# Altium schematic symbol library LPEDT_Parts.SchLib: 52 symbols (part 2 of 3)
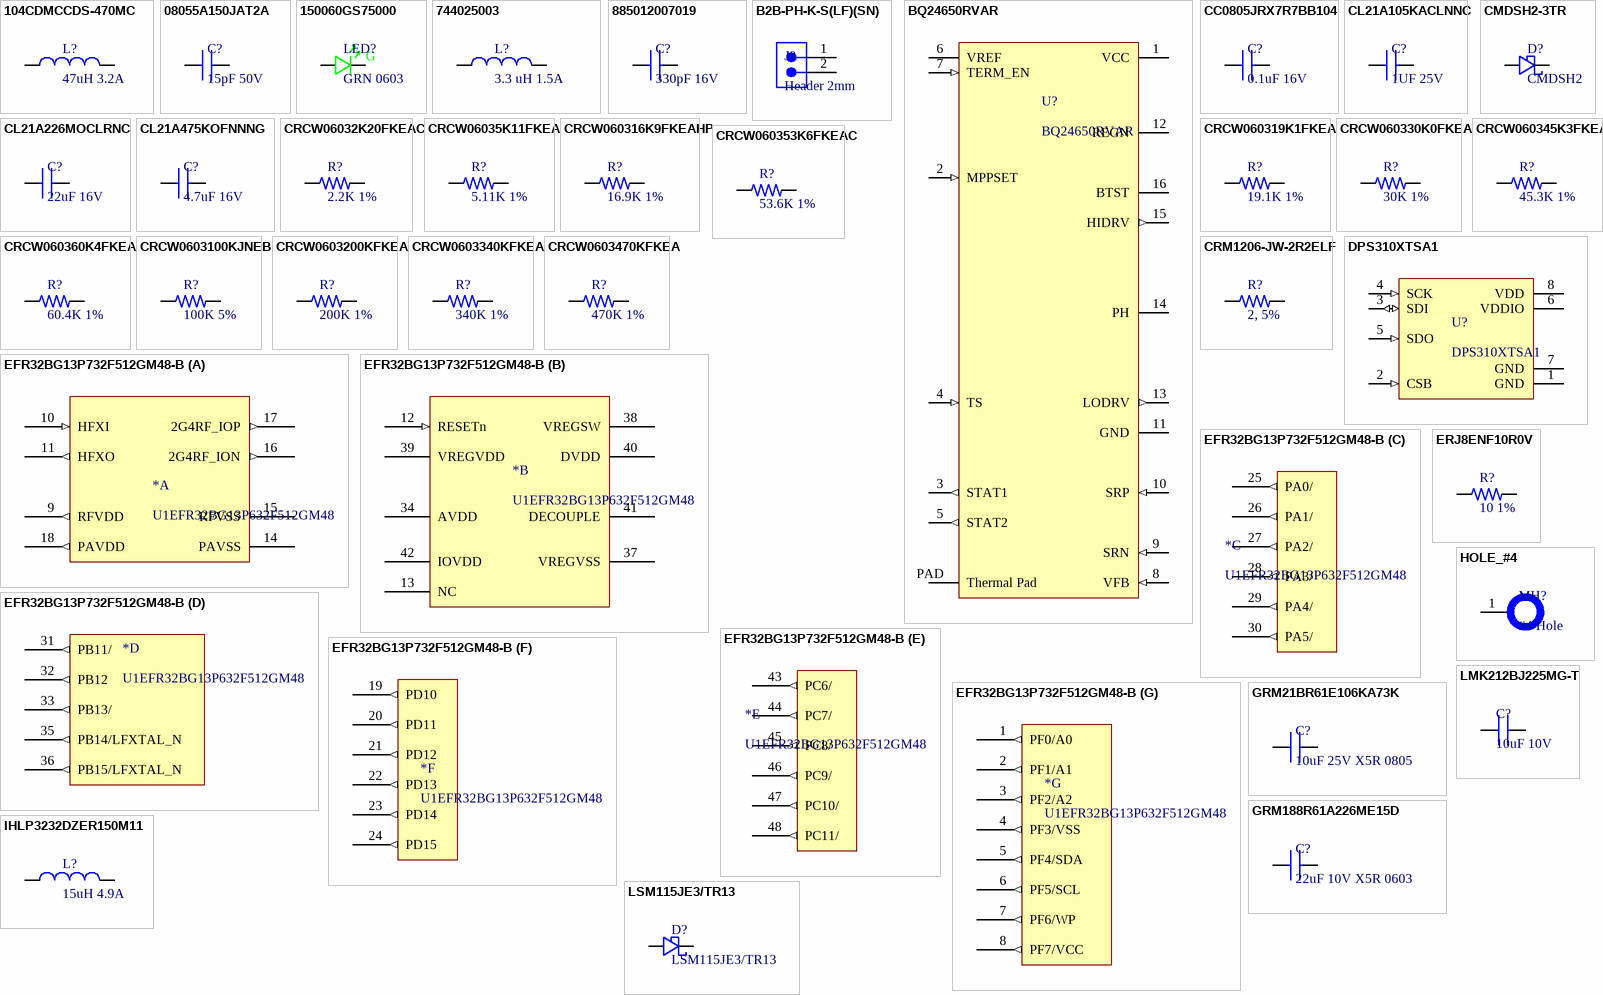
[diagram p2: symbols 104CDMCCDS-470MC to LSM115JE3/TR13]

## CRCW0603470KFKEA
designator R?, comment 470K 1%
VISHAY - CRCW0603470KFKEA - SMD Chip Resistor, 0603 [1608 Metric], 470 kohm, CRCW e3 Series, 75 V, Thick Film, 100 mW; Resistance: 470kR; Power Rating: 100mW; Temperature Coefficient: 100ppm/°C; Voltage Rating: 75V; Supplier 1: Digi-Key; Manufacturer: Vishay; Manufacturer Part Number: CRCW0603470KFKEA; RoHS: Yes; Category: Chip SMD Resistors; Stock 1: 4420; Pricing 1: 1=0.10000, 10=0.03400, 100=0.01390, 1000=0.00624, 2500=0.00542 (USD); Mount: Surface Mount; Case/Package: 0603; Number of Pins: 2; Contact Plating: Tin; Weight: 7.1E-05oz; Case Code (Metric): 1608; Case Code (Imperial): 0603; Size Code: 0603; Min Operating Temperature: -55°C; Max Operating Temperature: 155°C; Tolerance: 1%; Resistor Type: Thick Film; Termination: SMD/SMT; Packaging: Tape and Reel; Package Quantity: 10; Number of Terminations: 2; Max Power Dissipation: 100mW; Voltage Rating (DC): 75V; Features: Automotive AEC-Q200; Series: CRCW; Construction: Rectangular; Resistance Tolerance: 1%; Technology: THICK FILM; Length: 1.55mm; Width: 0.033inch; Height: 0.45mm; Depth: 0.85mm; Radiation Hardening: No; Lead Free: Lead Free; RoHS Compliant: Yes; REACH SVHC: Unknown; Military Standard: Not; ComponentLink1URL: https://datasheet.ciiva.com/11809/0900766b80d98afc-11809059.pdf?src-supplier=RSComponents; ComponentLink1Description: https://datasheet.ciiva.com/11809/0900766b80d98afc-11809059.pdf?src-supplier=RSComponents; ComponentLink2URL: https://datasheet.ciiva.com/2466/dcrcwe3-2466326.pdf?src-supplier=Digi-Key; ComponentLink2Description: https://datasheet.ciiva.com/2466/dcrcwe3-2466326.pdf?src-supplier=Digi-Key; ComponentLink3URL: https://datasheet.ciiva.com/2466/dcrcwe3-2466327.pdf?src-supplier=Digi-Key; ComponentLink3Description: https://datasheet.ciiva.com/2466/dcrcwe3-2466327.pdf?src-supplier=Digi-Key; ComponentLink4URL: https://datasheet.ciiva.com/2466/dcrcwe3-2466328.pdf?src-supplier=Digi-Key; ComponentLink4Description: https://datasheet.ciiva.com/2466/dcrcwe3-2466328.pdf?src-supplier=Digi-Key; ComponentLink5URL: https://datasheet.ciiva.com/7673/1720486-7673467.pdf?src-supplier=Element14; ComponentLink5Description: https://datasheet.ciiva.com/7673/1720486-7673467.pdf?src-supplier=Element14; ComponentLink6URL: https://datasheet.ciiva.com/16430/dcrcwe3-16430126.pdf?src-supplier=Future+Electronics; ComponentLink6Description: https://datasheet.ciiva.com/16430/dcrcwe3-16430126.pdf?src-supplier=Future+Electronics; ComponentLink7URL: https://datasheet.ciiva.com/5551/dcrcwe3-109170-5551097.pdf?src-supplier=Mouser; ComponentLink7Description: https://datasheet.ciiva.com/5551/dcrcwe3-109170-5551097.pdf?src-supplier=Mouser; ComponentLink8URL: https://datasheet.ciiva.com/16760/70201119-16760810.pdf?src-supplier=Allied+Electronics; ComponentLink8Description: https://datasheet.ciiva.com/16760/70201119-16760810.pdf?src-supplier=Allied+Electronics; ComponentLink9URL: https://datasheet.ciiva.com/7673/1697337-7673309.pdf?src-supplier=Element14; ComponentLink9Description: https://datasheet.ciiva.com/7673/1697337-7673309.pdf?src-supplier=Element14; ComponentLink10URL: https://datasheet.ciiva.com/26317/fld-crcw-e3-data-en-26317181.pdf?src-supplier=Distrelec; ComponentLink10Description: https://datasheet.ciiva.com/26317/fld-crcw-e3-data-en-26317181.pdf?src-supplier=Distrelec
footprint RES_0603_1608X06 (Chip Resistor, 2-Leads, Body 1.60x0.80mm, IPC Medium Density)
pins: 1, 2

## CRM1206-JW-2R2ELF
designator R?, comment 2, 5%
BOURNS - CRM1206-JW-2R2ELF - SMD Current Sense Resistor, 2.2 ohm, CRM Series, 1206 [3216 Metric], 500 mW, ± 5%, Thick Film; Resistance: 2.2R; Temperature Coefficient: 200ppm/°C; Power Rating: 500mW; Voltage Rating: 200V; Supplier 1: Digi-Key; Manufacturer: Bourns; Manufacturer Part Number: CRM1206-JW-2R2ELF; RoHS: Yes; Category: Chip SMD Resistors; Stock 1: 20424; Pricing 1: 1=0.14000, 10=0.12200, 25=0.08480, 50=0.06580, 100=0.04700, 250=0.03664, 500=0.02914, 1000=0.02068 (USD); Case/Package: 1206; Number of Pins: 2; Case Code (Metric): 3216; Case Code (Imperial): 1206; Min Operating Temperature: -55°C; Max Operating Temperature: 155°C; Tolerance: 5%; Resistor Type: Thick Film; Packaging: Cut Tape; Package Quantity: 5000; Number of Terminations: 2; Max Power Dissipation: 500mW; Voltage Rating (DC): 200V; Series: CRM1206; Construction: Rectangular; Resistance Tolerance: 5%; Length: 3.1mm; Width: 0.063inch; Height: 0.026inch; Depth: 1.6mm; REACH SVHC: No SVHC; Military Standard: Not; RoHS Compliant: Yes; ComponentLink1URL: https://datasheet.ciiva.com/9123/crm0805-1206-2010-9123253.pdf?src-supplier=Avnet; ComponentLink1Description: https://datasheet.ciiva.com/9123/crm0805-1206-2010-9123253.pdf?src-supplier=Avnet; ComponentLink2URL: https://datasheet.ciiva.com/7985/1859481-7985944.pdf?src-supplier=Element14; ComponentLink2Description: https://datasheet.ciiva.com/7985/1859481-7985944.pdf?src-supplier=Element14; ComponentLink3URL: https://datasheet.ciiva.com/6562/crm0805-1206-2010-6562779.pdf?src-supplier=Digi-Key; ComponentLink3Description: https://datasheet.ciiva.com/6562/crm0805-1206-2010-6562779.pdf?src-supplier=Digi-Key; ComponentLink4URL: https://datasheet.ciiva.com/6562/crm0805-1206-2010-6562780.pdf?src-supplier=Digi-Key; ComponentLink4Description: https://datasheet.ciiva.com/6562/crm0805-1206-2010-6562780.pdf?src-supplier=Digi-Key; ComponentLink5URL: https://datasheet.ciiva.com/6562/crm0805-1206-2010-6562782.pdf?src-supplier=Digi-Key; ComponentLink5Description: https://datasheet.ciiva.com/6562/crm0805-1206-2010-6562782.pdf?src-supplier=Digi-Key; ComponentLink6URL: https://datasheet.ciiva.com/16929/crm0805-1206-2010-16929262.pdf?src-supplier=Avnet+Europe; ComponentLink6Description: https://datasheet.ciiva.com/16929/crm0805-1206-2010-16929262.pdf?src-supplier=Avnet+Europe
footprint RES_1206_310X16 (Chip Resistor, 2-Leads, Body 3.10x1.60mm, IPC Medium Density)
pins: 1, 2

## DPS310XTSA1
designator U?
INFINEON - DPS310XTSA1 - Pressure Sensor, Barometric, 17.404 psi, 4.351 psi, 1.7 V, 3.6 V; Interface: I2C,SPI; Max Supply Voltage: 3.6V; Output Type: SPI,I2C; Pressure Type: Vented Gauge; Operating Pressure: 17.4PSI; Max Pressure: 145PSI; Supplier 1: Digi-Key; Manufacturer: Infineon; Manufacturer Part Number: DPS310XTSA1; RoHS: Yes; Category: Pressure Sensors; Stock 1: 17160; Pricing 1: 1=2.89000, 5=2.68200, 10=2.22800, 25=1.85640, 50=1.65000, 100=1.56750, 500=1.32000, 1000=1.23750 (USD); Case/Package: LGA; Number of Pins: 8; Min Operating Temperature: -40°C; Max Operating Temperature: 85°C; Termination: SMD/SMT; Lead Free: Lead Free; Halogen Free: Halogen Free; RoHS Compliant: Yes; ComponentLink1URL: http://www.farnell.com/datasheets/2211517.pdf?src-supplier=Farnell; ComponentLink1Description: http://www.farnell.com/datasheets/2211517.pdf?src-supplier=Farnell; ComponentLink2URL: https://www.infineon.com/dgdl/Infineon-DPS310-DS-v01_00-EN.pdf?fileId=5546d462576f34750157750826c42242&src-supplier=Digi-Key; ComponentLink2Description: https://www.infineon.com/dgdl/Infineon-DPS310-DS-v01_00-EN.pdf?fileId=5546d462576f34750157750826c42242&src-supplier=Digi-Key; ComponentLink3URL: http://www.farnell.com/datasheets/2211517.pdf?src-supplier=Newark; ComponentLink3Description: http://www.farnell.com/datasheets/2211517.pdf?src-supplier=Newark; ComponentLink4URL: http://www.farnell.com/datasheets/2211517.pdf?src-supplier=Element14; ComponentLink4Description: http://www.farnell.com/datasheets/2211517.pdf?src-supplier=Element14
footprint 8-VLGA_2x2_5x1 (VLGA, 8-Leads, Body 2.00x2.50mmx1.00mm, Pitch 0.65mm)
pins: 1 GND (power) "Groud", 2 CSB (in) "Not used - open (internal pullup) or tie to VDDIO", 3 SDI (io) "Serial data in/out", 4 SCK (in) "Serial Clock", 5 SDO (in) "Interrupt pin and least significant bit in the device address", 6 VDDIO (power) "Digital supply voltage for digital blocks and I/O interface", 7 GND (power) "Ground", 8 VDD (power) "Supply voltage for analog blocks"

## EFR32BG13P732F512GM48-B
designator *, comment U1EFR32BG13P632F512GM48
BLUE PREMIUM QFN48 2.4G 19 DBM B; Manufacturer: Silicon Labs; Manufacturer Part Number: EFR32BG13P732F512GM48-B; Interface: I2C,UART,USART; Frequency: 2.4GHz; Data Rate: 2Mbps; Sensitivity: -102dBm; Memory Size: 64KB; Number of GPIO: 31; Current - Receiving: 11mA; Current - Transmitting: 8.5mA; Supplier 1: Digi-Key; RoHS: Yes; Category: RF Receivers, Transceivers; Stock 1: 19; Pricing 1: 1=6.48000, 25=6.24040, 100=6.00030, 1000=5.98905 (USD); Min Operating Temperature: -40°C; Max Operating Temperature: 85°C; Packaging: Tray; RoHS Compliant: Yes; ComponentLink1URL: https://www.silabs.com/documents/login/data-sheets/efr32bg13-datasheet.pdf?src-supplier=Digi-Key; ComponentLink1Description: https://www.silabs.com/documents/login/data-sheets/efr32bg13-datasheet.pdf?src-supplier=Digi-Key
footprint QFN50P700X700X90_HS-49N (QFN, 48-Leads, Body 7.00x7.00mm, Pitch 0.50mm, Thermal Pad 4.70x4.70mm, IPC Medium Density)
part A pins: 9 RFVDD (out), 10 HFXI (in), 11 HFXO (out), 14 PAVSS (power), 15 RFVSS (power), 16 2G4RF_ION (out), 17 2G4RF_IOP (out), 18 PAVDD (out)
part B pins: 12 RESETn (in), 13 NC, 34 AVDD (power), 37 VREGVSS (power), 38 VREGSW (power), 39 VREGVDD (power), 40 DVDD (power), 41 DECOUPLE (power), 42 IOVDD (power)
part C pins: 25 PA0/ (out), 26 PA1/ (out), 27 PA2/ (out), 28 PA3/ (out), 29 PA4/ (out), 30 PA5/ (out)
part D pins: 31 PB11/ (out), 32 PB12 (out), 33 PB13/ (out), 35 PB14/LFXTAL_N (out), 36 PB15/LFXTAL_N (out)
part E pins: 43 PC6/ (out), 44 PC7/ (out), 45 PC8/ (out), 46 PC9/ (out), 47 PC10/ (out), 48 PC11/ (out)
part F pins: 19 PD10 (out), 20 PD11 (out), 21 PD12 (out), 22 PD13 (out), 23 PD14 (out), 24 PD15 (out)
part G pins: 1 PF0/A0 (out), 2 PF1/A1 (out), 3 PF2/A2 (out), 4 PF3/VSS (out), 5 PF4/SDA (out), 6 PF5/SCL (out), 7 PF6/WP (out), 8 PF7/VCC (out)

## ERJ8ENF10R0V
designator R?, comment 10 1%
PANASONIC - ERJ8ENF10R0V - SMD Chip Resistor, 1206 [3216 Metric], 10 ohm, ERJ8EN Series, 200 V, Thick Film, 250 mW; Resistance: 10R; Temperature Coefficient: 100ppm/°C; Power Rating: 250mW; Voltage Rating: 200V; Supplier 1: Digi-Key; Manufacturer: Panasonic; Manufacturer Part Number: ERJ8ENF10R0V; RoHS: Yes; Category: Chip SMD Resistors; Stock 1: 395438; Pricing 1: 1=0.10000, 10=0.08900, 100=0.03410, 1000=0.01500, 2500=0.01296 (USD); Mount: Surface Mount; Case/Package: 1206; Number of Pins: 2; Contact Plating: Tin; Case Code (Metric): 3216; Case Code (Imperial): 1206; Size Code: 1206; Min Operating Temperature: -55°C; Max Operating Temperature: 155°C; Tolerance: 1%; Resistor Type: Thick Film; Packaging: Tape and Reel; Package Quantity: 5000; Number of Terminations: 2; Termination: SMD/SMT; Max Power Dissipation: 250mW; Voltage Rating (DC): 200V; Features: Automotive AEC-Q200; Series: ERJ; Resistance Tolerance: 1%; Construction: Rectangular; Length: 3.2mm; Width: 1.6mm; Height: 0.6mm; Depth: 1.6mm; Radiation Hardening: No; REACH SVHC: No SVHC; Military Standard: Not; Lead Free: Lead Free; RoHS Compliant: Yes; ComponentLink1URL: https://datasheet.ciiva.com/7802/426256-7802460.pdf?src-supplier=Element14; ComponentLink1Description: https://datasheet.ciiva.com/7802/426256-7802460.pdf?src-supplier=Element14; ComponentLink2URL: https://datasheet.ciiva.com/16758/70260748-16758703.pdf?src-supplier=Allied+Electronics; ComponentLink2Description: https://datasheet.ciiva.com/16758/70260748-16758703.pdf?src-supplier=Allied+Electronics; ComponentLink3URL: https://datasheet.ciiva.com/24069/aoa0000ce2-24069071.pdf?src-supplier=Mouser; ComponentLink3Description: https://datasheet.ciiva.com/24069/aoa0000ce2-24069071.pdf?src-supplier=Mouser; ComponentLink4URL: https://datasheet.ciiva.com/6082/426256-6082197.pdf?src-supplier=Farnell; ComponentLink4Description: https://datasheet.ciiva.com/6082/426256-6082197.pdf?src-supplier=Farnell; ComponentLink5URL: https://datasheet.ciiva.com/16724/70260748-16724651.pdf?src-supplier=Allied+Electronics; ComponentLink5Description: https://datasheet.ciiva.com/16724/70260748-16724651.pdf?src-supplier=Allied+Electronics; ComponentLink6URL: https://datasheet.ciiva.com/46372/1678782-46372959.pdf?src-supplier=Element14; ComponentLink6Description: https://datasheet.ciiva.com/46372/1678782-46372959.pdf?src-supplier=Element14
footprint RES_1206_310X16 (Chip Resistor, 2-Leads, Body 3.10x1.60mm, IPC Medium Density)
pins: 1, 2

## GRM21BR61E106KA73K
designator C?, comment 10uF 25V X5R 0805
CAP CER 10UF 25V X5R 0805; Manufacturer: Murata; Manufacturer Part Number: GRM21BR61E106KA73K; Tolerance: 10%; Supplier 1: Digi-Key; RoHS: Yes; Category: Ceramic Capacitors; Stock 1: 101639; Pricing 1: 1=0.23000, 10=0.15700, 50=0.09400, 100=0.07940, 500=0.05434, 1000=0.04807, 2500=0.04598, 5000=0.04180 (USD); Mount: Surface Mount; Case/Package: 0805; Weight: 0.000335oz; Min Operating Temperature: -55°C; Max Operating Temperature: 85°C; Packaging: Tape and Reel; Capacitance: 10uF; Voltage Rating: 25V; Package Quantity: 10000; Dielectric: X5R; Voltage Rating (DC): 25V; Length: 0.079inch; Width: 0.049inch; Thickness: 0.055inch; RoHS Compliant: Yes; ComponentLink1URL: http://www.mouser.com/ds/2/281/c02e-2905.pdf?src-supplier=Mouser; ComponentLink1Description: http://www.mouser.com/ds/2/281/c02e-2905.pdf?src-supplier=Mouser; ComponentLink2URL: http://search.murata.co.jp/Ceramy/image/img/A01X/G101/ENG/GRM21BR61E106KA73-01.pdf?src-supplier=Digi-Key; ComponentLink2Description: http://search.murata.co.jp/Ceramy/image/img/A01X/G101/ENG/GRM21BR61E106KA73-01.pdf?src-supplier=Digi-Key; ComponentLink3URL: https://search.murata.co.jp/Ceramy/image/img/A01X/G101/ENG/GRM21BR61E106KA73-01.pdf?src-supplier=Digi-Key; ComponentLink3Description: https://search.murata.co.jp/Ceramy/image/img/A01X/G101/ENG/GRM21BR61E106KA73-01.pdf?src-supplier=Digi-Key
footprint CAP_0805_1_4MM (Chip Capacitor, 2-Leads, Body 2.00x1.25mm, IPC Medium Density)
pins: 1, 2

## GRM188R61A226ME15D
designator C?, comment 22uF 10V X5R 0603
CAP CER 22UF 10V X5R 0603; Manufacturer: Murata; Manufacturer Part Number: GRM188R61A226ME15D; Voltage Rating DC: 10 VDC; Tolerance: 20 %; Brand: Murata Electronics; Type: Voltage and Temperature Derating Recommended Product; Unit Weight: 0.000222 oz; Supplier 1: Digi-Key; Supplier Part Number 1: 490-10476-1-ND; Stock 1: 849458; Pricing 1: 1=0.33, 10=0.226, 50=0.1506, 100=0.1279, 500=0.0903, 1000=0.079 (USD); Product Category: Multilayer Ceramic Capacitors MLCC - SMD/SMT; RoHS: True; Capacitance: 22 uF; Dielectric: X5R; Case Code - in: 0603; Case Code - mm: 1608; Height: 0.8 mm; Maximum Operating Temperature: + 85 C; Minimum Operating Temperature: - 55 C; Product: General Type MLCCs; Series: GRM; Packaging: Reel; Length: 1.6 mm; Package / Case: 0603 (1608 metric); Factory Pack Quantity: 4000; Termination Style: SMD/SMT; Width: 0.8 mm; ComponentLink1URL: http://www.farnell.com/datasheets/2047978.pdf?src-supplier=Element14; ComponentLink1Description: http://www.farnell.com/datasheets/2047978.pdf?src-supplier=Element14
footprint CAP_0603_1MM (Chip Capacitor, 2-Leads, Body 1.60x0.80mm, IPC Medium Density)
pins: 1, 2

## HOLE_#4
designator MH?, comment #4 Hole  (no BOM)
footprint HOLE_#4
pins: 1

## IHLP3232DZER150M11
designator L?, comment 15uH 4.9A
Inductor High Current Shielded Wirewound 15uH 20% 100KHz 4.9A 65.3mOhm DCR 3232 T/R; Manufacturer: Vishay Dale; Manufacturer Part Number: IHLP3232DZER150M11; Core Material: Ferrite; Saturation Current: 3.7A; Self Resonant Frequency: 10.3MHz; DC Resistance (DCR): 65.3mR; Supplier 1: Digi-Key; RoHS: Yes; Category: Fixed Inductors; Stock 1: 5273; Pricing 1: 1=1.37000, 10=1.26800, 25=1.17040, 50=0.97520, 100=0.91670, 250=0.81916 (USD); Mount: Surface Mount; Case/Package: 3232; Number of Pins: 2; Contact Plating: Tin; Min Operating Temperature: -55°C; Max Operating Temperature: 125°C; Inductance Tolerance: 20%; Packaging: Tape and Reel; Package Quantity: 500; Current Rating: 4.9A; Tolerance: 20%; Shielding: Shielded; Inductance: 15uH; Test Frequency: 100kHz; Max DC Current: 3.7A; Termination: SMD/SMT; RMS Current (Irms): 4.9A; Series: IHLP-3232DZ-11; Length: 8.89mm; Width: 0.322inch; Height: 4mm; Height - Seated (Max): 0.157inch; Depth: 8.26mm; Radiation Hardening: No; REACH SVHC: Unknown; Military Standard: Not; Lead Free: Lead Free; RoHS Compliant: Yes; ComponentLink1URL: https://datasheet.ciiva.com/6692/ihlp-3232dz-11-6692869.pdf?src-supplier=Digi-Key; ComponentLink1Description: https://datasheet.ciiva.com/6692/ihlp-3232dz-11-6692869.pdf?src-supplier=Digi-Key; ComponentLink2URL: https://datasheet.ciiva.com/6692/ihlp-3232dz-11-6692871.pdf?src-supplier=Digi-Key; ComponentLink2Description: https://datasheet.ciiva.com/6692/ihlp-3232dz-11-6692871.pdf?src-supplier=Digi-Key; ComponentLink3URL: https://datasheet.ciiva.com/6692/ihlp-3232dz-11-6692872.pdf?src-supplier=Digi-Key; ComponentLink3Description: https://datasheet.ciiva.com/6692/ihlp-3232dz-11-6692872.pdf?src-supplier=Digi-Key; ComponentLink4URL: https://datasheet.ciiva.com/8494/ihlp3232dz11-8494905.pdf?src-supplier=Avnet; ComponentLink4Description: https://datasheet.ciiva.com/8494/ihlp3232dz11-8494905.pdf?src-supplier=Avnet
footprint IND_818X818 (Molded Inductor, 2-Leads, Body 8.18x8.18mm, IPC Medium Density)
pins: 1, 2

## LMK212BJ225MG-T
designator C?, comment 10uF 10V
CAP CER 2.2UF 10V X5R 0805; Manufacturer: Taiyo Yuden; Manufacturer Part Number: LMK212BJ225MG-T; Tolerance: 20%; Supplier 1: Digi-Key; RoHS: Yes; Category: Ceramic Capacitors; Stock 1: 15727; Pricing 1: 1=0.14000, 10=0.10200, 50=0.05780, 100=0.04780, 500=0.03356, 1000=0.02778 (USD); Mount: Surface Mount; Case/Package: 0805; Case Code (Imperial): 0805; Case Code (Metric): 2012; Weight: 0.000194oz; Min Operating Temperature: -55°C; Max Operating Temperature: 85°C; Capacitance: 2.2uF; Packaging: Tape and Reel; Voltage Rating (DC): 10V; Voltage Rating: 10V; Dielectric: X5R; Termination: SMD/SMT; Resistor Type: Ceramic; Voltage: 10V; Series: M; Length: 2mm; Width: 1.25mm; Height: 1.25mm; Thickness: 0.053inch; Depth: 1.25mm; Radiation Hardening: No; Lead Free: Lead Free; Halogen Free: Halogen Free; RoHS Compliant: Yes; ComponentLink1URL: http://www.mouser.com/ds/2/396/mlcc_all_e-541559.pdf?src-supplier=Mouser; ComponentLink1Description: http://www.mouser.com/ds/2/396/mlcc_all_e-541559.pdf?src-supplier=Mouser; ComponentLink2URL: https://www.yuden.co.jp/productdata/catalog/mlcc01_e.pdf?src-supplier=Digi-Key; ComponentLink2Description: https://www.yuden.co.jp/productdata/catalog/mlcc01_e.pdf?src-supplier=Digi-Key; ComponentLink3URL: http://documents.rs-components.com/techlib://itc_doclist_GB.htm?stockno=7582925&src-supplier=RSComponents; ComponentLink3Description: http://documents.rs-components.com/techlib://itc_doclist_GB.htm?stockno=7582925&src-supplier=RSComponents; ComponentLink4URL: http://ds.yuden.co.jp/TYCOMPAS/ut/detail.do?productNo=LMK212BJ225MG-T&fileName=LMK212BJ225MG-T_SS&mode=specSheetDownload&src-supplier=Digi-Key; ComponentLink4Description: http://ds.yuden.co.jp/TYCOMPAS/ut/detail.do?productNo=LMK212BJ225MG-T&fileName=LMK212BJ225MG-T_SS&mode=specSheetDownload&src-supplier=Digi-Key; ComponentLink5URL: http://www.yuden.co.jp/productdata/catalog/en/mlcc_all_e.pdf?src-supplier=Digi-Key; ComponentLink5Description: http://www.yuden.co.jp/productdata/catalog/en/mlcc_all_e.pdf?src-supplier=Digi-Key
footprint CAP_0805_1_4MM (Chip Capacitor, 2-Leads, Body 2.00x1.25mm, IPC Medium Density)
pins: 1, 2

## LSM115JE3/TR13
designator D?
DIODE SCHOTTKY 30V 200MA SOD323; Manufacturer: Microsemi; Forward Voltage: 220mV; Forward Current: 1A; Max Reverse Current: 10mA; Reverse Voltage (DC): 15V; Peak Non-Repetitive Surge Current: 50A; Element Configuration: Single; Max Reverse Leakage Current: 50uA; Power Dissipation: 250mW; Supplier 1: Digi-Key; Manufacturer Part Number: LSM115JE3/TR13; RoHS: Yes; Category: Rectifier Diodes; Stock 1: 39247; Pricing 1: 1=1.08000, 10=0.88700, 100=0.69010, 500=0.58490, 1000=0.47647 (USD); Mount: Surface Mount; Number of Pins: 2; Weight: 0.003668oz; Min Operating Temperature: -55°C; Max Operating Temperature: 100°C; Packaging: Tape and Reel; Package Quantity: 3000; Average Rectified Current: 1A; Max Repetitive Reverse Voltage (Vrrm): 15V; Max Forward Surge Current (Ifsm): 50A; Max Reverse Voltage (DC): 15V; Radiation Hardening: No; Lead Free: Lead Free; ComponentLink1URL: https://datasheet.ciiva.com/917/lsm115j-917432.pdf?src-supplier=Digi-Key; ComponentLink1Description: https://datasheet.ciiva.com/917/lsm115j-917432.pdf?src-supplier=Digi-Key; Supplier 2: Digi-Key; Stock 2: 32; Pricing 2: 1=0.63000, 10=0.54300, 100=0.37560, 500=0.31386, 1000=0.26712 (USD); Max Surge Current: 1A; Voltage: 30V; Series: -; RoHS Compliant: No; ComponentLink2URL: https://datasheet.ciiva.com/4715/cmdsh2-3-39086-4715895.pdf?src-supplier=Mouser; ComponentLink2Description: https://datasheet.ciiva.com/4715/cmdsh2-3-39086-4715895.pdf?src-supplier=Mouser; ComponentLink3URL: https://datasheet.ciiva.com/16396/cmdsh2-3-16396583.pdf?src-supplier=Future+Electronics; ComponentLink3Description: https://datasheet.ciiva.com/16396/cmdsh2-3-16396583.pdf?src-supplier=Future+Electronics
footprint DIODE_4_31X3_62MM (Molded Diode, 2-Leads, Body 4.31x3.62mm, IPC Medium Density)
pins: 1 CATHODE, 2 ANODE

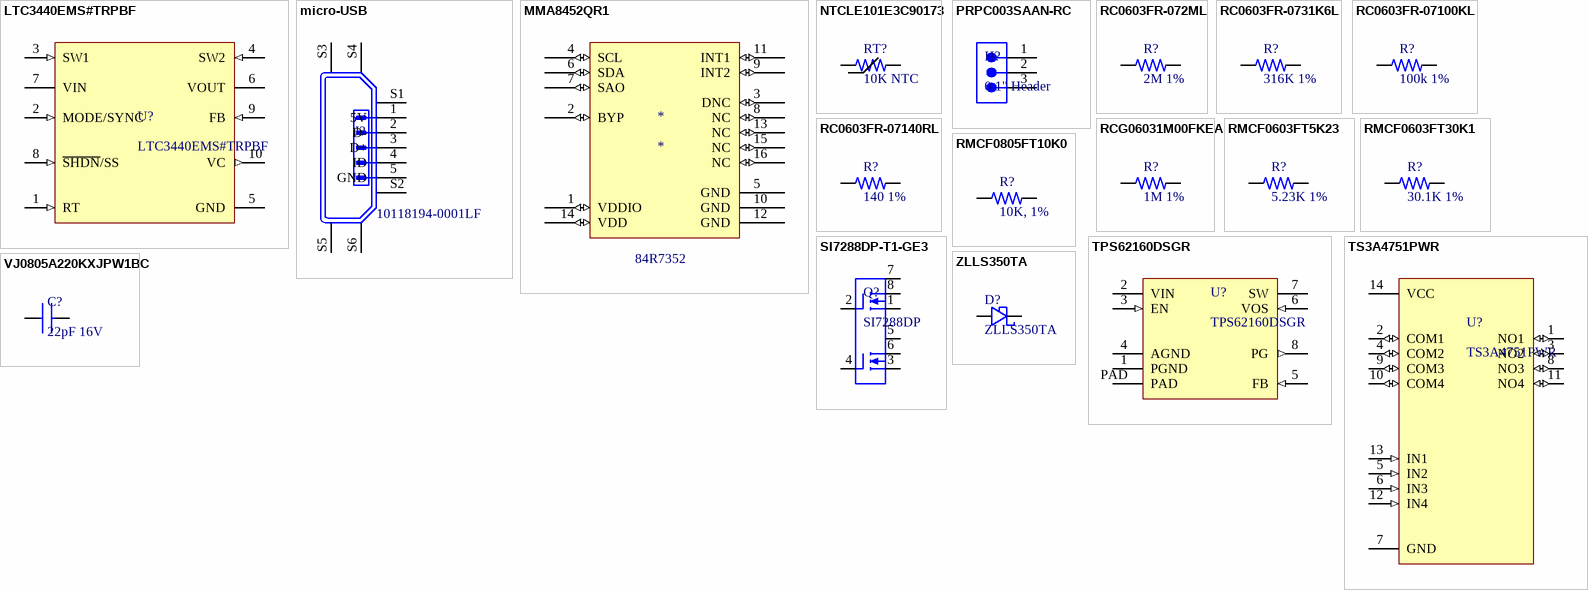
[diagram p1: symbols LTC3440EMS#TRPBF to ZLLS350TA]

## LTC3440EMS#TRPBF
designator U?
IC REG BUCK BST ADJ 0.6A 10MSOP; Manufacturer: Analog Devices / Linear Technology; Output Voltage: 5.5V; Output Current: 600mA; Efficiency: 96%; Min Input Voltage: 2.5V; Number of Outputs: 1; Switching Frequency: 2MHz; Synchronous Rectifier: Yes; Output Type: Adjustable; Supplier 1: Digi-Key; Manufacturer Part Number: LTC3440EMS#TRPBF; RoHS: Yes; Category: Voltage Regulators - Switching; Stock 1: 8435; Pricing 1: 1=6.71000, 10=6.06200, 25=5.78000, 100=4.79330, 250=4.37040, 500=4.08842, 1000=3.72400 (USD); Case/Package: MSOP; Number of Pins: 10; Min Operating Temperature: -40°C; Max Operating Temperature: 85°C; Package Quantity: 2500; Packaging: Tape and Reel; Series: -; Lead Free: Lead Free; RoHS Compliant: Yes; ComponentLink1URL: https://datasheet.ciiva.com/26899/ltc3440ems-trpbf-26899120.pdf?src-supplier=IIIC; ComponentLink1Description: https://datasheet.ciiva.com/26899/ltc3440ems-trpbf-26899120.pdf?src-supplier=IIIC; ComponentLink2URL: https://datasheet.ciiva.com/2031/3314-2031816.pdf?src-supplier=Digi-Key; ComponentLink2Description: https://datasheet.ciiva.com/2031/3314-2031816.pdf?src-supplier=Digi-Key
footprint 10-MSOP_3x3 (MSOP, 10-Leads, Body 3.00x3.00mm, Pitch 0.50mm, IPC Medium Density)
pins: 1 RT (in) "Timing Resistor to Program the Oscillator", 2 MODE/SYNC (in) ""Timing Resistor to Program the Oscillator / Frequency. The programming frequency range is 300kHz / to 2MHz."", 3 SW1 (in) ""MODE/SYNC = External CLK : Synchronization / of the internal oscillator. A clock frequency / of twice the desired switching frequency and with a pulse / width between 100ns and 2μs is applied."", 4 SW2 (in) ""Switch Pin Where the Internal Switches / A and B are Connected. Connect inductor from SW1 to / SW2. An optional Schottky diode can be connected from / SW1 to ground. Minimize trace length to keep EMI down."", 5 GND (power) ""Switch Pin Where the Internal Switches C / and D are Connected. For applications with output voltages / over 4.3V, a Schottky diode is required from SW2 to VOUT / to ensure the SW pin does not exhibit excess voltage."", 6 VOUT (power) "Signal and Power Ground for the IC.", 7 VIN (power) ""Output of the Synchronous Rectifier. A filter / capacitor is placed from VOUT to GND."", 8 ~{SHDN}/SS (in) ""Input Supply Pin. Internal VCC for the IC. A / ceramic bypass capacitor as close to the VIN pin and GND / (Pin 5) is required."", 9 FB (in) ""Combined Soft-Start and Shutdown. / Grounding this pin shuts down the IC. Tie to >1.5V to / enable the IC and >2.5V to ensure the error amp is not / clamped from soft-start. An RC from the shutdown command / signal to this pin will provide a soft-start function / by limiting the rise time of the VC pin."", 10 VC (out) ""Feedback Pin. Connect resistor divider tap / here. The output voltage can be adjusted from 2.5V to / 5.5V. The feedback reference voltage is typically 1.22V.""

## micro-USB
designator J?  Manufacturer Part Number: 10118194-0001LF  (hidden comment: micro-USB)
10118194-0001LF micro-USB paste-in-pad; Manufacturer: FCI; Connector Type: USB - micro B; Number of Contacts: 5; Gender: Receptacle; Specifications: USB 2.0; Current Rating: 1.8 A; Mounting Angle: Right; Insulation Resistance: 1000 MOhms; .Creator: Kailey Shara; .SCHchecked: KS; Supplier 1: Digi-Key; RoHS: RoHS Compliant; Category: Connectors, Interconnects; Stock 1: 27978; Pricing 1: 1=0.46, 10=0.433, 25=0.3712, 50=0.3156, 100=0.3032, 250=0.27224, 500=0.25988 (USD); Packaging: Cut Tape (CT); Mounting Type: Surface Mount, Right Angle, Horizontal; Features: Shielded, Solder Retention; Ingress Protection: -; ComponentLink1URL: http://portal.fciconnect.com/Comergent//fci/drawing/10118194.pdf; ComponentLink1Description: http://portal.fciconnect.com/Comergent//fci/drawing/10118194.pdf; Color: Black; Contact Plating: Gold; Operating Temperature Range: - 55 C to + 85 C; Product: Micro USB Type B Connectors; Termination Style: SMD; Brand: FCI; Contact Material: Copper Alloy; Flammability Rating: UL 94 V-0; Standard: USB 2.0; Standard Pack Qty: 1200; Minimum Order Quantity: 1; Reeling: True; Supplier Part Number 1: 609-4618-1-ND; .PCBchecked: KS
footprint micro-USB (microUSB paste-in-pad)
pins: 1 5V (power), 2 D-, 3 D+, 4 ID, 5 GND (power), S1 GND (power), S2 GND (power), S3 GND (power), S4 GND (power), S5 GND (power), S6 GND (power)

## MMA8452QR1
designator *  Supplier Part Number 1: 84R7352
Accelerometer Triple ±2g/±4g/±8g 2.5V 16-Pin QFN T/R; Manufacturer: NXP Freescale; Manufacturer Part Number: MMA8452QR1; Bandwidth: 400Hz; Interface: I2C; Max Supply Voltage: 3.6V; Min Supply Voltage: 1.95V; Resolution: 12b; Output Type: I2C,Digital; Axis: X, Y, Z; Supplier 1: Newark; RoHS: Yes; Category: Accelerometers; Pricing 1: 1=2.49000, 10=1.57000, 25=1.51000, 50=1.46000, 100=1.40000 (USD); Mount: Surface Mount; Case/Package: QFN; Number of Pins: 16; Weight: 0.001122oz; Contact Plating: Gold; Min Operating Temperature: -40°C; Max Operating Temperature: 85°C; Package Quantity: 1000; Packaging: Tape and Reel; Series: -; Length: 3mm; Depth: 3mm; Radiation Hardening: No; REACH SVHC: No SVHC; RoHS Compliant: Yes; ComponentLink1URL: https://datasheet.ciiva.com/6484/mma8452q-6484545.pdf?src-supplier=Digi-Key; ComponentLink1Description: https://datasheet.ciiva.com/6484/mma8452q-6484545.pdf?src-supplier=Digi-Key; ComponentLink2URL: https://datasheet.ciiva.com/5296/mma8452q-64080-5296451.pdf?src-supplier=Mouser; ComponentLink2Description: https://datasheet.ciiva.com/5296/mma8452q-64080-5296451.pdf?src-supplier=Mouser; ComponentLink3URL: https://datasheet.ciiva.com/26025/mma8452q-26025828.pdf?src-supplier=Avnet+Europe; ComponentLink3Description: https://datasheet.ciiva.com/26025/mma8452q-26025828.pdf?src-supplier=Avnet+Europe; ComponentLink4URL: https://datasheet.ciiva.com/41459/001183459-da-01-en-ic-acceler-2g-4g-8-mma8452qr1-qfn-16-fre-41459457.pdf?src-supplier=Conrad; ComponentLink4Description: https://datasheet.ciiva.com/41459/001183459-da-01-en-ic-acceler-2g-4g-8-mma8452qr1-qfn-16-fre-41459457.pdf?src-supplier=Conrad; ComponentLink5URL: https://datasheet.ciiva.com/6484/mma8452q-6484518.pdf?src-supplier=Digi-Key; ComponentLink5Description: https://datasheet.ciiva.com/6484/mma8452q-6484518.pdf?src-supplier=Digi-Key; ComponentLink6URL: https://datasheet.ciiva.com/6484/mma8452q-6484517.pdf?src-supplier=Digi-Key; ComponentLink6Description: https://datasheet.ciiva.com/6484/mma8452q-6484517.pdf?src-supplier=Digi-Key; ComponentLink7URL: https://datasheet.ciiva.com/3271/mma8452q-3271581.pdf?src-supplier=Avnet; ComponentLink7Description: https://datasheet.ciiva.com/3271/mma8452q-3271581.pdf?src-supplier=Avnet
footprint MMA8452 (QFN, 16-Leads, Body 3.00x3.00mm, Pitch 0.50mm, IPC Medium Density)
pins: 1 VDDIO (io) "Internal Powr Supply", 2 BYP (io) "Bypass Capacitor (0.1 uF)", 3 DNC (io) "Do not connect to anything, leave pin and floating", 4 SCL (io) "I2c Serial Clock , open drain", 5 GND (power) "Connect to ground", 6 SDA (io) "I2c Serial data", 7 SAO (io) "2C least significant bit of the device I2C address, I2C 7-bit address = 0x1C (SA0 = 0), 0x1D (SA0 = 1).", 8 NC (io) "Internally not connected", 9 INT2 (io) "Inertial interrupt 2, output pin", 10 GND (power) "Connect to ground", 11 INT1 (io) "Inertial interrupt 1, output pin", 12 GND (power) "Connect to ground", 13 NC (io) "Internally not connected", 14 VDD (io) "Power supply (1.95 V to 3.6 V)", 15 NC (io) "Internally not connected", 16 NC (io) "Internally not connected (can be GND or VDD)"

## NTCLE101E3C90173
designator RT?, comment 10K NTC
THERM NTC 10KOHM 3435K RADIAL; Manufacturer: Vishay BCcomponents; Manufacturer Part Number: NTCLE101E3C90173; Max Power Dissipation: 250mW; Tolerance: 1%; Supplier 1: Digi-Key; RoHS: Yes; Category: Thermistors; Stock 1: 1784; Pricing 1: 1=1.78000, 5=1.71600, 10=1.39500, 25=1.20160, 50=1.04060, 100=0.94400, 500=0.79384, 1000=0.70802, 5000=0.64365 (USD); Mount: Through Hole; Case/Package: Radial; Min Operating Temperature: -40°C; Max Operating Temperature: 125°C; Packaging: Bulk; RoHS Compliant: Yes; ComponentLink1URL: http://www.vishay.com/docs/29152/ntcle101e3c9017x.pdf?src-supplier=Digi-Key; ComponentLink1Description: http://www.vishay.com/docs/29152/ntcle101e3c9017x.pdf?src-supplier=Digi-Key
footprint NTC-2_THRUHOLE (NTC, 2 Lead, THRUHOLE)
pins: 1, 2

## PRPC003SAAN-RC
designator H?, comment 0.1" Header
CONN HEADER VERT 3POS 2.54MM; Manufacturer: Sullins; Manufacturer Part Number: PRPC003SAAN-RC; Connector Type: Header, Unshrouded, Breakaway; Number of Positions: 3; Number of Positions Loaded: All; Pitch: 0.100" (2.54mm); Online Catalog: 0.100" (2.54mm) Pitch Connector Headers; Other Names: S9510E-03  S9510E-03-ND; Supplier 1: Digi-Key; Stock 1: 19067; Pricing 1: 1=0.12, 10=0.109, 25=0.0812, 50=0.0696, 100=0.0673, 250=0.058, 500=0.0557 (USD); Standard Package: 1; Category: Connectors, Interconnects; Family: Rectangular Connectors - Headers, Male Pins; Series: -; Packaging: Bulk; Contact Type: Male Pin; Number of Rows: 1; Row Spacing: -; Contact Mating Length: 0.230" (5.84mm); Mounting Type: Through Hole; Termination: Solder; Fastening Type: -; Features: -; Contact Finish: Gold; Contact Finish Thickness: Flash; Color: Black; ComponentLink1URL: https://media.digikey.com/PDF/Data%20Sheets/Sullins%20PDFs/xRxCzzzSxxN-RC_ST_11635-B.pdf?src-supplier=Digi-Key; ComponentLink1Description: https://media.digikey.com/PDF/Data%20Sheets/Sullins%20PDFs/xRxCzzzSxxN-RC_ST_11635-B.pdf?src-supplier=Digi-Key; Supplier Part Number 1: S1011EC-03-ND
footprint 3-PIN_MALE_HEADER_01-IN (.025 SQ Post Terminal Strip Assembly, 1x3 Pins, Vertical, 2.54mm Pitch, Male)
pins: 1, 2, 3

## RC0603FR-072ML
designator R?, comment 2M 1%
Res Thick Film 0603 2M Ohm 1% 0.1W(1/10W) +/-100ppm/ßC Epoxy SMD T/R; Manufacturer: Yageo; Manufacturer Part Number: RC0603FR-072ML; Resistance: 2MR; Power Rating: 100mW; Voltage Rating: 75V; Temperature Coefficient: 100ppm/°C; Voltage Rating (DC): 50V; Supplier 1: Digi-Key; RoHS: Yes; Category: Chip SMD Resistors; Stock 1: 919914; Pricing 1: 1=0.10000, 10=0.02100, 100=0.00840, 1000=0.00379, 2500=0.00329 (USD); Mount: Surface Mount; Case/Package: 0603; Case Code (Imperial): 0603; Case Code (Metric): 1608; Weight: 7.1E-05oz; Size Code: 0603; Min Operating Temperature: -55°C; Max Operating Temperature: 155°C; Tolerance: 1%; Packaging: Tape and Reel; Package Quantity: 1; Termination: SMD/SMT; Resistor Type: Thick Film; Number of Terminations: 2; Max Power Dissipation: 100mW; Features: Moisture Resistant; Series: RC; Technology: THICK FILM; Length: 1.6mm; Width: 0.8mm; Height: 0.45mm; Depth: 0.8mm; Lead Free: Lead Free; RoHS Compliant: Yes; ComponentLink1URL: https://datasheet.ciiva.com/11808/0900766b80f96399-11808743.pdf?src-supplier=RSComponents; ComponentLink1Description: https://datasheet.ciiva.com/11808/0900766b80f96399-11808743.pdf?src-supplier=RSComponents; ComponentLink2URL: https://datasheet.ciiva.com/2454/pyu-r-int-thick-7-2454115.pdf?src-supplier=Digi-Key; ComponentLink2Description: https://datasheet.ciiva.com/2454/pyu-r-int-thick-7-2454115.pdf?src-supplier=Digi-Key; ComponentLink3URL: https://datasheet.ciiva.com/2454/pyu-r-int-thick-7-2454116.pdf?src-supplier=Digi-Key; ComponentLink3Description: https://datasheet.ciiva.com/2454/pyu-r-int-thick-7-2454116.pdf?src-supplier=Digi-Key; ComponentLink4URL: https://datasheet.ciiva.com/2454/pyu-r-int-thick-7-2454114.pdf?src-supplier=Digi-Key; ComponentLink4Description: https://datasheet.ciiva.com/2454/pyu-r-int-thick-7-2454114.pdf?src-supplier=Digi-Key
footprint RES_0603_1608X06 (Chip Resistor, 2-Leads, Body 1.60x0.80mm, IPC Medium Density)
pins: 1, 2

## RC0603FR-0731K6L
designator R?, comment 316K 1%
Res Thick Film 0603 31.6K Ohm 1% 0.1W(1/10W) ?100ppm/?C Molded SMD Paper T/R; Manufacturer: Yageo; Manufacturer Part Number: RC0603FR-0731K6L; Power Rating: 100mW; Resistance: 31.6kR; Temperature Coefficient: 100ppm/°C; Voltage Rating (DC): 50V; Working Voltage: 75V; Supplier 1: Digi-Key; RoHS: Yes; Category: Chip SMD Resistors; Stock 1: 222782; Pricing 1: 1=0.10000, 10=0.02100, 100=0.00840, 1000=0.00379, 2500=0.00329 (USD); Case/Package: 0603; Case Code (Imperial): 0603; Case Code (Metric): 1608; Min Operating Temperature: -55°C; Max Operating Temperature: 155°C; Packaging: Tape and Reel; Tolerance: 1%; Package Quantity: 1; Voltage Rating: 50V; Termination: SMD/SMT; Resistor Type: Thick Film; Number of Terminations: 2; Max Power Dissipation: 100mW; Features: Moisture Resistant; Series: RC; Construction: Rectangular; Technology: METAL OXIDE FILM; Length: 1.6mm; Width: 0.8mm; Height: 0.022inch; Depth: 0.8mm; Lead Free: Lead Free; Military Standard: Not; RoHS Compliant: Yes
footprint RES_0603_1608X06 (Chip Resistor, 2-Leads, Body 1.60x0.80mm, IPC Medium Density)
pins: 1, 2

## RC0603FR-07100KL
designator R?, comment 100k 1%
RES SMD 100K OHM 1% 1/10W 0603; Manufacturer: Yageo; Manufacturer Part Number: RC0603FR-07100KL; Resistance: 100 kOhms; Power Rating: 100 mW; Voltage Rating: 50 V; Temperature Coefficient: 100 PPM / C; Supplier 1: Digi-Key; Supplier Part Number 1: 311-100KHRCT-ND; Stock 1: 13478446; Pricing 1: 1=0.1, 10=0.022, 100=0.009, 1000=0.0041, 2500=0.0035 (USD); Termination Style: SMD/SMT; Product: Thick Film Resistors General Purpose; Tolerance: 1 %; Case Code - in: 0603; Case Code - mm: 1608; Series: RC; Operating Temperature Range: - 55 C to + 155 C; Packaging: Reel; ComponentLink1URL: http://www.farnell.com/datasheets/2167052.pdf?src-supplier=Element14; ComponentLink1Description: http://www.farnell.com/datasheets/2167052.pdf?src-supplier=Element14; ComponentLink2URL: http://www.farnell.com/datasheets/1868787.pdf?src-supplier=Element14; ComponentLink2Description: http://www.farnell.com/datasheets/1868787.pdf?src-supplier=Element14; ComponentLink3URL: http://documents.rs-components.com/techlib://itc_doclist_GB.htm?stockno=5048940&src-supplier=RSComponents; ComponentLink3Description: http://documents.rs-components.com/techlib://itc_doclist_GB.htm?stockno=5048940&src-supplier=RSComponents; ComponentLink4URL: http://www.farnell.com/datasheets/443971.pdf?src-supplier=Element14; ComponentLink4Description: http://www.farnell.com/datasheets/443971.pdf?src-supplier=Element14
footprint RES_0603_1608X06 (Chip Resistor, 2-Leads, Body 1.60x0.80mm, IPC Medium Density)
pins: 1, 2

## RC0603FR-07140RL
designator R?, comment 140 1%
Thick Film Resistors 140 OHM 1%; Manufacturer: Yageo; Manufacturer Part Number: RC0603FR-07140RL; Resistance: 140R; Power Rating: 100mW; Voltage Rating: 50V; Temperature Coefficient: 100ppm/°C; Supplier 1: Digi-Key; RoHS: Yes; Category: Chip SMD Resistors; Stock 1: 402396; Pricing 1: 1=0.10000, 10=0.02100, 100=0.00840, 1000=0.00379, 2500=0.00329 (USD); Mount: Surface Mount; Case/Package: 0603; Case Code (Imperial): 0603; Case Code (Metric): 1608; Size Code: 0603; Min Operating Temperature: -55°C; Max Operating Temperature: 155°C; Tolerance: 1%; Packaging: Tape and Reel; Termination: SMD/SMT; Resistor Type: Thick Film; Voltage Rating (DC): 50V; Features: Moisture Resistant; Series: RC; Max Power Dissipation: 100mW; Number of Terminations: 2; Construction: Rectangular; Technology: THICK FILM; Length: 1.6mm; Height: 0.45mm; Depth: 0.8mm; Military Standard: Not; Lead Free: Lead Free; RoHS Compliant: Yes; ComponentLink1URL: https://datasheet.ciiva.com/11808/0900766b80c66297-11808828.pdf?src-supplier=RSComponents; ComponentLink1Description: https://datasheet.ciiva.com/11808/0900766b80c66297-11808828.pdf?src-supplier=RSComponents; ComponentLink2URL: https://datasheet.ciiva.com/15189/getdatasheetpartid-329205-15189606.pdf?src-supplier=Verical; ComponentLink2Description: https://datasheet.ciiva.com/15189/getdatasheetpartid-329205-15189606.pdf?src-supplier=Verical
footprint RES_0603_1608X06 (Chip Resistor, 2-Leads, Body 1.60x0.80mm, IPC Medium Density)
pins: 1, 2

## RCG06031M00FKEA
designator R?, comment 1M 1%
RES SMD 1M OHM 1% 1/10W 0603; Manufacturer: Vishay Dale; Manufacturer Part Number: RCG06031M00FKEA; Max Power Dissipation: 100mW; Temperature Coefficient: 100ppm/°C; Resistance: 1MR; Voltage Rating: 75V; Supplier 1: Digi-Key; RoHS: Yes; Category: Chip SMD Resistors; Stock 1: 3565; Pricing 1: 1=0.10000, 10=0.07200, 100=0.02920, 1000=0.01312, 2500=0.01138 (USD); Case/Package: 0603; Case Code (Imperial): 0603; Case Code (Metric): 1608; Weight: 7.1E-05oz; Min Operating Temperature: -55°C; Max Operating Temperature: 155°C; Termination: SMD/SMT; Resistor Type: Thick Film; Number of Terminations: 2; Power Rating: 100mW; Tolerance: 1%; Packaging: Tape and Reel; Package Quantity: 5000; Length: 0.061inch; Width: 0.85mm; Height: 0.02inch; ComponentLink1URL: https://datasheet.ciiva.com/18600/rcge3-18600074.pdf?src-supplier=Digi-Key; ComponentLink1Description: https://datasheet.ciiva.com/18600/rcge3-18600074.pdf?src-supplier=Digi-Key; ComponentLink2URL: https://datasheet.ciiva.com/18600/rcge3-18600122.pdf?src-supplier=Digi-Key; ComponentLink2Description: https://datasheet.ciiva.com/18600/rcge3-18600122.pdf?src-supplier=Digi-Key; ComponentLink3URL: https://datasheet.ciiva.com/18600/rcge3-18600123.pdf?src-supplier=Digi-Key; ComponentLink3Description: https://datasheet.ciiva.com/18600/rcge3-18600123.pdf?src-supplier=Digi-Key
footprint RES_0603_1608X06 (Chip Resistor, 2-Leads, Body 1.60x0.80mm, IPC Medium Density)
pins: 1, 2

## RMCF0603FT5K23
designator R?, comment 5.23K 1%
RES SMD 5.23K OHM 1% 1/10W 0603; Manufacturer: Stackpole Electronics; Manufacturer Part Number: RMCF0603FT5K23; Resistance: 5.23kR; Max Power Dissipation: 100mW; Temperature Coefficient: 100ppm/°C; Supplier 1: Digi-Key; RoHS: Yes; Category: Chip SMD Resistors; Stock 1: 29980; Pricing 1: 1=0.10000, 10=0.01600, 100=0.00650, 1000=0.00292, 2500=0.00253 (USD); Mount: Surface Mount; Case/Package: 0603; Case Code (Metric): 1608; Case Code (Imperial): 0603; Contact Plating: Tin,Matte; Min Operating Temperature: -55°C; Max Operating Temperature: 155°C; Tolerance: 1%; Features: Automotive AEC-Q200; Packaging: Tape and Reel; Resistor Type: Thick Film; Number of Terminations: 2; Series: RMCF; Length: 0.061inch; Width: 0.031inch; Height: 0.022inch; Radiation Hardening: No; Lead Free: Lead Free; RoHS Compliant: Yes; ComponentLink1URL: https://www.seielect.com/Catalog/SEI-RMCF_RMCP.pdf?src-supplier=Digi-Key; ComponentLink1Description: https://www.seielect.com/Catalog/SEI-RMCF_RMCP.pdf?src-supplier=Digi-Key; ComponentLink2URL: https://www.seielect.com/catalog/SEI-Packaging.pdf?src-supplier=Digi-Key; ComponentLink2Description: https://www.seielect.com/catalog/SEI-Packaging.pdf?src-supplier=Digi-Key; ComponentLink3URL: https://www.seielect.com/catalog/SEI-RMCF_RMCP.pdf?src-supplier=Avnet; ComponentLink3Description: https://www.seielect.com/catalog/SEI-RMCF_RMCP.pdf?src-supplier=Avnet
footprint RES_0603_1608X06 (Chip Resistor, 2-Leads, Body 1.60x0.80mm, IPC Medium Density)
pins: 1, 2

## RMCF0603FT30K1
designator R?, comment 30.1K 1%
RES SMD 30.1K OHM 1% 1/10W 0603; Manufacturer: Stackpole Electronics; Manufacturer Part Number: RMCF0603FT30K1; Resistance: 30.1kR; Power Rating: 100mW; Temperature Coefficient: 100ppm/°C; Supplier 1: Digi-Key; RoHS: Yes; Category: Chip SMD Resistors; Stock 1: 307080; Pricing 1: 1=0.10000, 10=0.01600, 100=0.00650, 1000=0.00292, 2500=0.00253 (USD); Mount: Surface Mount; Case/Package: 0603; Case Code (Metric): 1608; Case Code (Imperial): 0603; Contact Plating: Tin,Matte; Min Operating Temperature: -55°C; Max Operating Temperature: 155°C; Tolerance: 1%; Packaging: Tape and Reel; Resistor Type: Thick Film; Number of Terminations: 2; Max Power Dissipation: 100mW; Features: Automotive AEC-Q200; Series: RMCF; Construction: Rectangular; Length: 1.55mm; Width: 0.031inch; Height: 0.022inch; Depth: 0.8mm; Radiation Hardening: No; Military Standard: Not; RoHS Compliant: Yes; ComponentLink1URL: http://components.arrow.com/part/dataview/44987904S7172006N1174?src-supplier=Arrow+Electronics; ComponentLink1Description: http://components.arrow.com/part/dataview/44987904S7172006N1174?src-supplier=Arrow+Electronics; ComponentLink2URL: https://www.seielect.com/catalog/SEI-Packaging.pdf?src-supplier=Digi-Key; ComponentLink2Description: https://www.seielect.com/catalog/SEI-Packaging.pdf?src-supplier=Digi-Key; ComponentLink3URL: https://www.seielect.com/catalog/SEI-RMCF_RMCP.pdf?src-supplier=Avnet; ComponentLink3Description: https://www.seielect.com/catalog/SEI-RMCF_RMCP.pdf?src-supplier=Avnet; ComponentLink4URL: https://www.seielect.com/catalog/SEI-RMCF_RMCP.pdf?src-supplier=Avnet+Asia; ComponentLink4Description: https://www.seielect.com/catalog/SEI-RMCF_RMCP.pdf?src-supplier=Avnet+Asia; ComponentLink5URL: https://www.seielect.com/Catalog/SEI-RMCF_RMCP.pdf?src-supplier=Digi-Key; ComponentLink5Description: https://www.seielect.com/Catalog/SEI-RMCF_RMCP.pdf?src-supplier=Digi-Key; ComponentLink6URL: https://www.verical.com/server-webapp/html/getDatasheet?partID=717621&src-supplier=Verical; ComponentLink6Description: https://www.verical.com/server-webapp/html/getDatasheet?partID=717621&src-supplier=Verical
footprint RES_0603_1608X06 (Chip Resistor, 2-Leads, Body 1.60x0.80mm, IPC Medium Density)
pins: 1, 2

## RMCF0805FT10K0
designator R?, comment 10K, 1%
RES 10K OHM 1% 1/8W 0805; Manufacturer: Stackpole Electronics; Manufacturer Part Number: RMCF0805FT10K0; Resistance: 10kR; Power Rating: 125mW; Temperature Coefficient: 100ppm/°C; Supplier 1: Digi-Key; RoHS: Yes; Category: Chip SMD Resistors; Stock 1: 2466676; Pricing 1: 1=0.10000, 10=0.02600, 100=0.01040, 1000=0.00466, 2500=0.00405 (USD); Mount: Surface Mount; Case/Package: 0805; Case Code (Metric): 2012; Case Code (Imperial): 0805; Contact Plating: Tin,Matte; Size Code: 0805; Min Operating Temperature: -55°C; Max Operating Temperature: 155°C; Tolerance: 1%; Packaging: Tape and Reel; Resistor Type: Thick Film; Number of Terminations: 2; Max Power Dissipation: 125mW; Features: Automotive AEC-Q200; Series: RMCF; Construction: Rectangular; Length: 2mm; Width: 0.049inch; Height: 0.026inch; Depth: 1.25mm; Radiation Hardening: No; Lead Free: Lead Free; Military Standard: Not; RoHS Compliant: Yes; ComponentLink1URL: https://datasheet.ciiva.com/15193/getdatasheetpartid-362046-15193525.pdf?src-supplier=Verical; ComponentLink1Description: https://datasheet.ciiva.com/15193/getdatasheetpartid-362046-15193525.pdf?src-supplier=Verical
footprint RES_0805_2X1_25MM (Chip Resistor, 2-Leads, Body 2.00x1.25mm, IPC Medium Density)
pins: 1, 2

## SI7288DP-T1-GE3
designator Q?, comment SI7288DP
VISHAY - SI7288DP-T1-GE3 - MOSFET, DUAL N-CH, 40V, 20A, POWERPAK SO; Manufacturer: Vishay Siliconix; Rise Time: 14ns; Gate to Source Voltage (Vgs): 20V; Turn-On Delay Time: 12ns; Turn-Off Delay Time: 16ns; Fall Time: 10ns; Nominal Vgs: 1.2V; Rds On Max: 19mR; Input Capacitance: 565pF; Max Power Dissipation: 15.6W; Drain to Source Resistance: 15.6mR; Number of Elements: 2; Power Dissipation: 3.6W; Threshold Voltage: 2.8V; FET Type: 2 N-Channel; Supplier 1: Digi-Key; Manufacturer Part Number: SI7288DP-T1-GE3; RoHS: Yes; Category: MOSFETs; Stock 1: 23843; Pricing 1: 1=1.60000, 10=1.30700, 25=1.28240, 100=1.01640, 500=0.86152, 1000=0.70180 (USD); Mount: Surface Mount; Number of Pins: 8; Contact Plating: Tin,Matte; Min Operating Temperature: -55°C; Max Operating Temperature: 150°C; Continuous Drain Current (ID): 20A; Packaging: Tape and Reel; Package Quantity: 1; Drain to Source Voltage (Vdss): 40V; Drain to Source Breakdown Voltage: 40V; Element Configuration: Dual; Number of Channels: 2; On-State Resistance: 19mR; Radiation Hardening: No; REACH SVHC: Unknown; Lead Free: Lead Free; ComponentLink1URL: https://datasheet.ciiva.com/1253/si7288dp-1253714.pdf?src-supplier=Newark; ComponentLink1Description: https://datasheet.ciiva.com/1253/si7288dp-1253714.pdf?src-supplier=Newark; ComponentLink2URL: https://datasheet.ciiva.com/4442/si7288dp-244449-4442467.pdf?src-supplier=Mouser; ComponentLink2Description: https://datasheet.ciiva.com/4442/si7288dp-244449-4442467.pdf?src-supplier=Mouser; ComponentLink3URL: https://datasheet.ciiva.com/928/si7288dp-928419.pdf?src-supplier=Digi-Key; ComponentLink3Description: https://datasheet.ciiva.com/928/si7288dp-928419.pdf?src-supplier=Digi-Key; ComponentLink4URL: https://datasheet.ciiva.com/928/si7288dp-928420.pdf?src-supplier=Digi-Key; ComponentLink4Description: https://datasheet.ciiva.com/928/si7288dp-928420.pdf?src-supplier=Digi-Key; ComponentLink5URL: https://datasheet.ciiva.com/928/si7288dp-928421.pdf?src-supplier=Digi-Key; ComponentLink5Description: https://datasheet.ciiva.com/928/si7288dp-928421.pdf?src-supplier=Digi-Key; ComponentLink6URL: https://datasheet.ciiva.com/11161/si7288dp-11161495.pdf?src-supplier=Avnet; ComponentLink6Description: https://datasheet.ciiva.com/11161/si7288dp-11161495.pdf?src-supplier=Avnet; ComponentLink7URL: https://datasheet.ciiva.com/26135/si7288dp-26135833.pdf?src-supplier=Avnet+Europe; ComponentLink7Description: https://datasheet.ciiva.com/26135/si7288dp-26135833.pdf?src-supplier=Avnet+Europe; ComponentLink8URL: https://datasheet.ciiva.com/16287/si7288dp-16287085.pdf?src-supplier=Future+Electronics; ComponentLink8Description: https://datasheet.ciiva.com/16287/si7288dp-16287085.pdf?src-supplier=Future+Electronics
footprint FET-SO8_POWERPAK_515X615 (SO8, 8-Leads, POWERPAK, Body 5.15x6.15mm, Pitch 1.27mm, Thermal Pad 1.60x0.69mm, IPC Medium Density)
pins: 1 S1, 2 G1, 3 S2, 4 G2, 5 D2_1, 6 D2_2, 7 D1_1, 8 D1_2

## TPS62160DSGR
designator U?
IC REG BUCK ADJ 1A SYNC 8WSON; Manufacturer: Texas Instruments; Number of Outputs: 1; Output Voltage: 6V; Max Input Voltage: 17V; Min Input Voltage: 3V; Min Output Voltage: 900mV; Switching Frequency: 2.25MHz; Synchronous Rectifier: Yes; Quiescent Current: 17uA; Output Type: Adjustable; Output Configuration: Positive; Supplier 1: Digi-Key; Manufacturer Part Number: TPS62160DSGR; RoHS: Yes; Category: Voltage Regulators - Switching; Stock 1: 13319; Pricing 1: 1=1.59000, 10=1.43100, 25=1.35000, 100=1.08000, 250=0.94500, 500=0.91800, 1000=0.72900 (USD); Case/Package: SOIC; Number of Pins: 8; Contact Plating: Gold; Min Operating Temperature: -40°C; Max Operating Temperature: 125°C; Packaging: Tape and Reel; Package Quantity: 3000; Output Current: 1A; Max Output Current: 1A; Max Output Voltage: 6V; Operating Supply Voltage: 17V; Radiation Hardening: No; REACH SVHC: No SVHC; Lead Free: Lead Free; ComponentLink1URL: https://datasheet.ciiva.com/2026/tps62161-2026049.pdf?src-supplier=Digi-Key; ComponentLink1Description: https://datasheet.ciiva.com/2026/tps62161-2026049.pdf?src-supplier=Digi-Key; ComponentLink2URL: https://datasheet.ciiva.com/2026/tps62160-2026414.pdf?src-supplier=Digi-Key; ComponentLink2Description: https://datasheet.ciiva.com/2026/tps62160-2026414.pdf?src-supplier=Digi-Key; ComponentLink3URL: https://datasheet.ciiva.com/2026/tps62160-2026415.pdf?src-supplier=Digi-Key; ComponentLink3Description: https://datasheet.ciiva.com/2026/tps62160-2026415.pdf?src-supplier=Digi-Key
footprint 8-DFN_2x2 (DFN, 8-Leads, Body 2.00x2.00mm, Pitch 0.50mm, Thermal Pad 1.60x0.69mm, IPC Medium Density)
pins: 1 PGND (power) "Power ground", 2 VIN (power) "Supply voltage", 3 EN (in) "Enable input (high = enabled, Low = disabled)", 4 AGND (power) "Analog ground", 5 FB (in) "Voltage feedback of adjustable version. Connect resistive voltage divider to this pin. It is recommended to connect FB to AGND on fixed output voltage versions for improved thermal performance.", 6 VOS (in) "Output voltage sense pin and connection for the control loop circuitry.", 7 SW (power) "Switch node, which is connected to the internal MOSFET switches. Connect inductor between SW and output capacitor.", 8 PG (out) "Output power good (High = VOUT ready, Low = VOUT below nominal regulation); open drain (requires pull-up resistor; goes high impedance, when device is switched off).", PAD (power) "Must be connected to AGND. Must be soldered to achieve appropriate power dissipation and mechanical reliability."